# EAGLE library part 6180XX231221_618015231221 (library 618015233821_Eagle_WR-DSUB_rev20a)
WR-DSUB 8.08 mm Male Angled PCB Connector w. Hex Screw Kind Properties Quality Class:3 as per IEC 60 603-13 Gender:Male Type:Angled Insulator Material:PBT Insulator Flammability Rating:UL94 V-0 Color:Black Contact Material:Copper Alloy Contact Plating:Gold Contact Type:Stamped Shielding Material:Steel Shielding Plating:Nickel General Information Operating Temperature:-55 up to +105 °C Compliance:RoHS Electrical Properties IR1:3 A Working Voltage:125 V (AC) Withstanding Voltage:100 V (AC) Contact Resistance:30 mΩ <https://www.we-online.com/catalog/media/o33083v209%20Family_WR-DSUB_6180xx231221.jpg> Details see: https://www.we-online.com/catalog/en/DSUB_MALE_ANGLED_PCB_CONNECTOR_W_HEX_SCREW_8_08MM_6180XX231221/ Updated by Yingchun, Shan 2020-01-08 2020 (C) Würth Elektronik
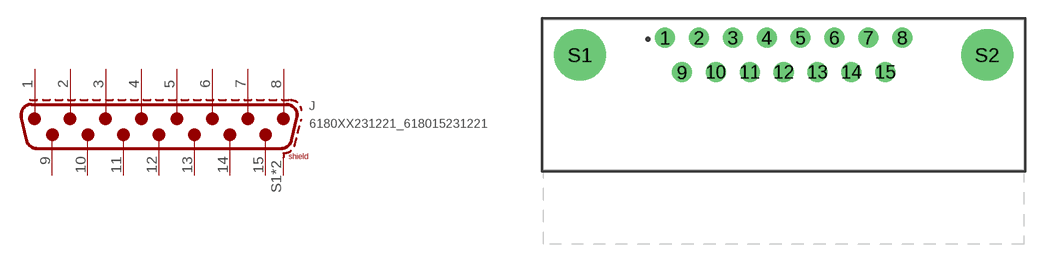
[diagram p5: symbol with the pads of 618015231221; footprint 618015231221]

Designator prefix J

## 6180XX231221_618015231221 (DATASHEET-URL: https://www.we-online.com/catalog/datasheet/618015231221.pdf; GENDER: Male; MATES-WITH: WR-DSUB 10.30 mm Female Angled PCB Connector w/o Hex Screw /Female PCB Connector/Female Solder Bucket; PART-NUMBER: 618015231221; PINS: 15; TYPE: Angled; WE-NUMBER: 618015231221)  [618015231221]
1  1
2  2
3  3
4  4
5  5
6  6
7  7
8  8
9  9
10  10
11  11
12  12
13  13
14  14
15  15
S1  SHIELD
S2  SHIELD

## Footprint 618015231221 (pad centres in mm)
WR-DSUB 8.08mm Male Angled PCB Connector with Hex Screw, 15 Pins
drill 1.09: 1 -9.695,7.72; 2 -6.925,7.72; 3 -4.155,7.72; 4 -1.385,7.72; 5 1.385,7.72; 6 4.155,7.72; 7 6.925,7.72; 8 9.695,7.72; 9 -8.31,4.88; 10 -5.54,4.88; 11 -2.77,4.88; 12 0,4.88; 13 2.77,4.88; 14 5.54,4.88; 15 8.31,4.88
drill 3.2: S1 -16.65,6.3; S2 16.65,6.3